# Altium footprint library Semtech.PcbLib: 1 footprints
Each footprint in its own frame and in the unit in brackets; x right, y up, seen from the top. Pads: shape width x height; smd on the part's side, far side on the other; paste and mask are expansions set on the pad; w line width, h text height; cw(c..) or ccw(c..) is an arc to the next point about the centre after c.
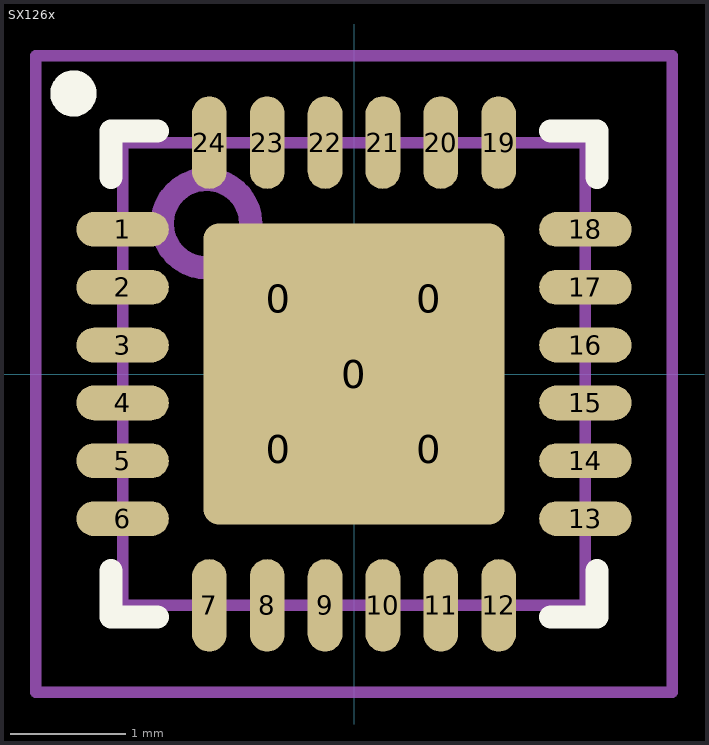
[diagram p0: the footprint, top view; thin cyan lines are the x and y axes]

## SX126x [mm]
height 0.8
pads (29):
  rrect20% 1.1x1.1 smd: 0(-0.65,-0.65) 0(-0.65,0.65) 0(0.65,-0.65) 0(0.65,0.65)
  rrect10% 2.6x2.6 smd paste-3: 0(0,0)
  oval 0.8x0.3 smd: 1(-2,1.25) 2(-2,0.75) 3(-2,0.25) 4(-2,-0.25) 5(-2,-0.75) 6(-2,-1.25) 13(2,-1.25) 14(2,-0.75) 15(2,-0.25) 16(2,0.25) 17(2,0.75) 18(2,1.25)
  oval 0.3x0.8 smd: 7(-1.25,-2) 8(-0.75,-2) 9(-0.25,-2) 10(0.25,-2) 11(0.75,-2) 12(1.25,-2) 19(1.25,2) 20(0.75,2) 21(0.25,2) 22(-0.25,2) 23(-0.75,2) 24(-1.25,2)
Top Overlay:
  circle w0.2: c-2.425,2.425 r0.1
  lines w0.2: -2.1,-1.7 -2.1,-2.1 -1.7,-2.1 ; -2.1,1.7 -2.1,2.1 -1.7,2.1 ; 1.7,-2.1 2.1,-2.1 2.1,-1.7 ; 1.7,2.1 2.1,2.1 2.1,1.7
3D Top:
  circle w0.2: c-1.275,1.3 r0.382
  lines w0.1: -2,-2 -2,2 2,2 2,-2 -2,-2
Courtyard Top:
  lines w0.1: -0.5,0 0.5,0 ; 0,-0.5 0,0.5 ; -2.75,-2.75 -2.75,2.75 2.75,2.75 2.75,-2.75 -2.75,-2.75
3D body: height 1, standoff 0.05, extent -2,-2 2,2